# EAGLE library part MILLIGRID_4X2 (library HermitRetro)
Milli-Grid 4x2 Header
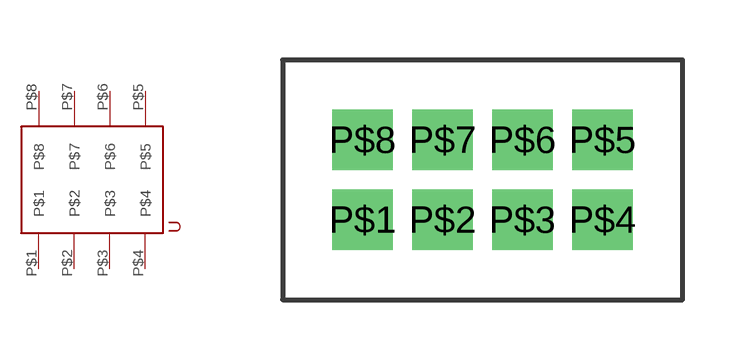
[diagram p21: symbol with the pads of MILLIGRID_4X2; footprint MILLIGRID_4X2]

Designator prefix -

## MILLIGRID_4X2-SOCKET (UNIT_PRICE: 1.13; VENDOR_ID: RS Components; VENDOR_SKU: 904-8238)  [MILLIGRID_4X2]
P$1  P$1
P$2  P$2
P$3  P$3
P$4  P$4
P$5  P$5
P$6  P$6
P$7  P$7
P$8  P$8

## MILLIGRID_4X2-HEADER (UNIT_PRICE: 0.53; VENDOR_ID: RS Components; VENDOR_SKU: 670-3689)  [MILLIGRID_4X2]
Pads as for MILLIGRID_4X2

## MILLIGRID_4X2-SOCKET-MIRROR (UNIT_PRICE: 1.13; VENDOR_ID: RS Components; VENDOR_SKU: 904-8238)  [MILLIGRID_4X2]
P$1  P$4
P$2  P$3
P$3  P$2
P$4  P$1
P$5  P$8
P$6  P$7
P$7  P$6
P$8  P$5

## Footprint MILLIGRID_4X2 (pad centres in mm)
Milli-Grid 4x2 header
drill 1 square: P$1 2,2; P$2 4,2; P$3 6,2; P$4 8,2; P$5 8,4; P$6 6,4; P$7 4,4; P$8 2,4